# Altium footprint library Li_Test.PcbLib: 2 footprints
Each footprint in its own frame and in the unit in brackets; x right, y up, seen from the top. Pads: shape width x height; smd on the part's side, far side on the other; paste and mask are expansions set on the pad; w line width, h text height; cw(c..) or ccw(c..) is an arc to the next point about the centre after c.
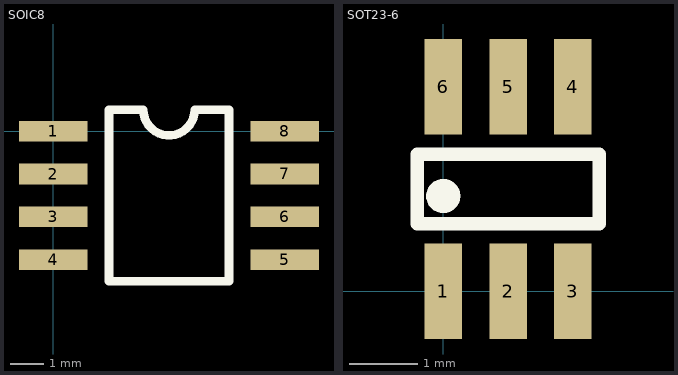
[diagram p0: the footprints below, top view; thin cyan lines are the x and y axes]

## SOIC8 [mil]
pads (8):
  rect 80x24 smd: 1(0,0) 2(0,-50.06) 3(0,-100.06) 4(0,-150.06) 5(270,-150) 6(270,-100) 7(270,-50) 8(270,0)
Top Overlay:
  lines w10: 75,24.94 75.06,25 105,25 ccw(c135,25) 165,25 204.94,25 205,24.94 205,-175.06 65,-175.06 65,24.94 95,24.94
3D body "SOIC-8.STEP": height 68.7, standoff -0.31, extent 12.97,-173.85 257.03,23

## SOT23-6 [mm]
pads (6):
  rect 0.55x1.4 smd: 1(0,0) 2(0.95,0) 3(1.9,0) 4(1.9,3) 5(0.95,3) 6(0,3)
Top Overlay:
  circle w0.25: c0,1.397 r0.125
  lines w0.2: -0.381,0.992 -0.381,2.008 2.286,2.008 2.286,0.992 -0.381,0.992
3D body "SOT23-6.STEP": height 1.15, standoff -0.03, extent -0.559,0.121 2.441,2.927